# Altium schematic symbol library Connector - Modular.SchLib: 7 symbols
Pins are listed as number, name and electrical type; pins without a type are passive.

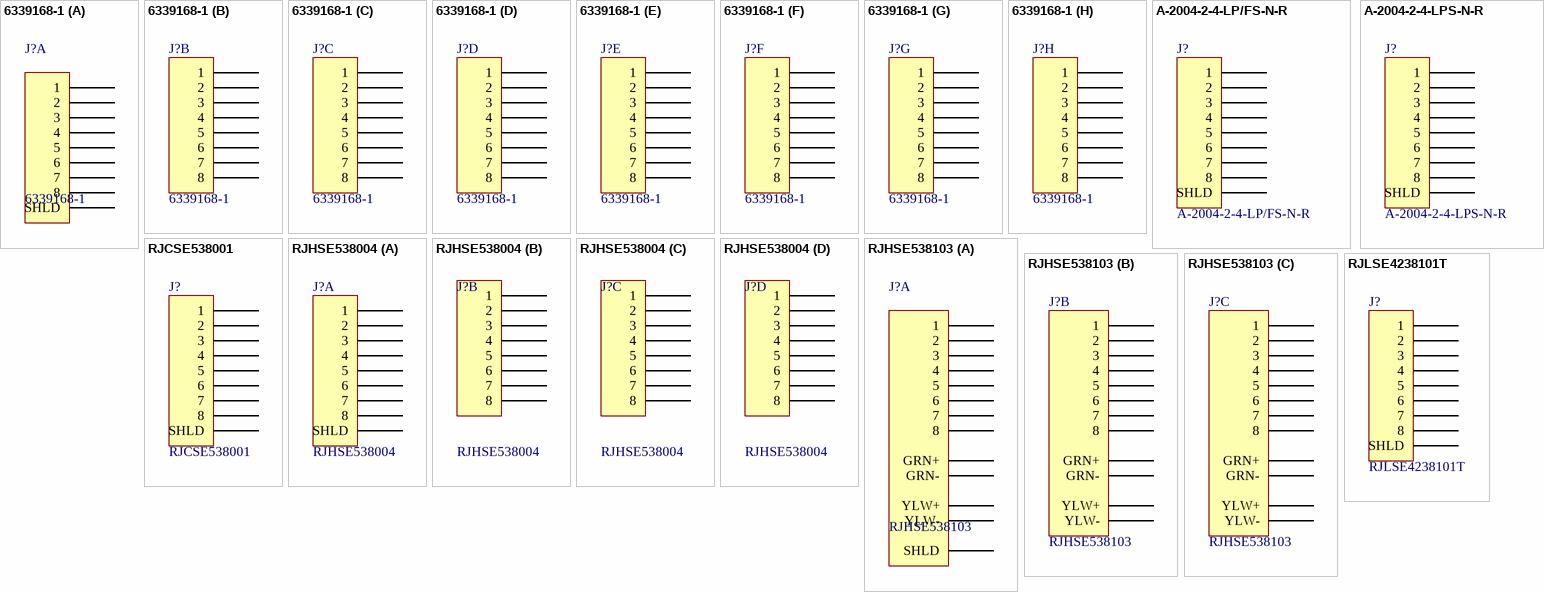
[diagram p0: symbols 6339168-1 to RJLSE4238101T]

## 6339168-1
designator J?
CONN MOD JACK 8PORT 8P8C R/A SHIELDED; Manufacturer: TE Connectivity AMP Connectors; Number Of Ports: 8; Shielding: Shielded, EMI Finger; LED Colour: Does Not Contain LED; Tab Direction: Up and Down; Part Number: 6339168-1; PartId: 9278; Supplier 1: Digi-Key; Supplier Part Number 1: A115573-ND; ComponentLink1Description: Datasheet; ComponentLink1URL: http://www.te.com/commerce/DocumentDelivery/DDEController?Action=srchrtrv&DocNm=6339168&DocType=Customer+Drawing&DocLang=English; ComponentLink2Description: Digi-Key Listing; ComponentLink2URL: http://www.digikey.ca/product-detail/en/6339168-1/A115573-ND/2188194; Price: 16.53; Series: -; Connector Type: Jack; Number Of Rows: 2; Mounting Type: Through Hole; Orientation: 90 Angle (Right); Termination: Solder; Features: Board Guide; Ingress Protection: -; Contact Finish: Gold
footprint TE 6339168-01-B
part A pins: A1 1, A2 2, A3 3, A4 4, A5 5, A6 6, A7 7, A8 8, S SHLD
part B pins: B1 1, B2 2, B3 3, B4 4, B5 5, B6 6, B7 7, B8 8
part C pins: C1 1, C2 2, C3 3, C4 4, C5 5, C6 6, C7 7, C8 8
part D pins: D1 1, D2 2, D3 3, D4 4, D5 5, D6 6, D7 7, D8 8
part E pins: E1 1, E2 2, E3 3, E4 4, E5 5, E6 6, E7 7, E8 8
part F pins: F1 1, F2 2, F3 3, F4 4, F5 5, F6 6, F7 7, F8 8
part G pins: G1 1, G2 2, G3 3, G4 4, G5 5, G6 6, G7 7, G8 8
part H pins: H1 1, H2 2, H3 3, H4 4, H5 5, H6 6, H7 7, H8 8

## A-2004-2-4-LP/FS-N-R
designator J?
CONN MOD JACK 8P8C R/A SHIELDED; Manufacturer: Assmann WSW Components; Number Of Ports: 1; LED Colour: Does Not Contain LED; Tab Direction: Down; Part Number: A-2004-2-4-LP/FS-N-R; PartId: 14419; Supplier 1: Digi-Key; Supplier Part Number 1: AE10386-ND; ComponentLink1Description: Datasheet; ComponentLink1URL: http://www.assmann.us/specs/A-2004-2-4-LP_FS-N-R_REV00.pdf; ComponentLink2Description: Digi-Key Listing; ComponentLink2URL: http://www.digikey.com/product-detail/en/assmann-wsw-components/A-2004-2-4-LP%2FFS-N-R/AE10386-ND/2183637; Price: 1.13; Series: -; Connector Type: Jack; Number Of Rows: 1; Mounting Type: Through Hole; Orientation: 90 Angle (Right); Termination: Solder; Shielding: Shielded; Features: Board Lock; Ingress Protection: -; Contact Finish: Gold
footprint ASSMANN A-2004-2-4-LP/FS
pins: 1, 2, 3, 4, 5, 6, 7, 8, S SHLD

## A-2004-2-4-LPS-N-R
designator J?
CONN MOD JACK 8P8C R/A SHIELDED; Manufacturer: Assmann WSW Components; Number Of Ports: 1; LED Colour: Does Not Contain LED; Tab Direction: Down; Part Number: A-2004-2-4-LPS-N-R; PartId: 14420; Supplier 1: Digi-Key; Supplier Part Number 1: AE10387-ND; ComponentLink1Description: Datasheet; ComponentLink1URL: http://www.assmann.us/specs/A-2004-2-4-LPS-N-R.pdf; ComponentLink2Description: Digi-Key Listing; ComponentLink2URL: http://www.digikey.com/product-detail/en/assmann-wsw-components/A-2004-2-4-LPS-N-R/AE10387-ND/2183638; Price: 1.05; Series: -; Connector Type: Jack; Number Of Rows: 1; Mounting Type: Through Hole; Orientation: 90 Angle (Right); Termination: Solder; Shielding: Shielded; Features: Board Lock; Ingress Protection: -; Contact Finish: Gold
footprint ASSMANN A-2004-2-4-LPS-N-R
pins: 1, 2, 3, 4, 5, 6, 7, 8, S SHLD

## RJCSE538001
designator J?
CONN MOD JACK 8P8C R/A SHIELDED; Manufacturer: Amphenol Commercial Products; Number Of Ports: 1; Shielding: Shielded, EMI Finger; LED Colour: Does Not Contain LED; Tab Direction: Up; Part Number: RJCSE538001; PartId: 9277; Supplier 1: Digi-Key; Supplier Part Number 1: RJCSE538001TR-ND; ComponentLink1Description: Datasheet; ComponentLink1URL: https://www.amphenolcanada.com/ProductSearch/drawings/AC/RJCSEX38X01X.pdf; ComponentLink2Description: Digi-Key Listing; ComponentLink2URL: http://www.digikey.ca/product-detail/en/RJCSE538001/RJCSE538001TR-ND/3464999; Price: 1.6368; Connector Type: Jack; Number Of Rows: 1; Mounting Type: Surface Mount; Orientation: 90 Angle (Right); Termination: Solder; Features: Board Guide, Solder Retention; Ingress Protection: -; Contact Finish: Gold
footprint Amphenol RJCSE538001
pins: 1, 2, 3, 4, 5, 6, 7, 8, S SHLD

## RJHSE538004
designator J?
CONN MOD JACK 8P8C R/A SHIELDED; Manufacturer: Amphenol Commercial Products; Number Of Ports: 4; Shielding: Shielded, EMI Finger; LED Colour: Does Not Contain LED; Tab Direction: Up; Part Number: RJHSE538004; PartId: 10877; Supplier 1: Digi-Key; Supplier Part Number 1: RJHSE538004-ND; ComponentLink1Description: Datasheet; ComponentLink1URL: https://www.amphenolcanada.com/ProductSearch/drawings/AC/RJHSE538x04.pdf; ComponentLink2Description: Digi-Key Listing; ComponentLink2URL: http://www.digikey.com/product-detail/en/amphenol-commercial-products/RJHSE538004/RJHSE538004-ND/1979547; Price: 4.39; Series: RJHSE; Connector Type: Jack; Number Of Rows: 1; Mounting Type: Through Hole; Orientation: 90 Angle (Right); Termination: Solder; Features: Board Lock; Ingress Protection: -; Contact Finish: Gold
footprint AMPHENOL RJHSE-5380-04
part A pins: A1 1, A2 2, A3 3, A4 4, A5 5, A6 6, A7 7, A8 8, S SHLD
part B pins: B1 1, B2 2, B3 3, B4 4, B5 5, B6 6, B7 7, B8 8
part C pins: C1 1, C2 2, C3 3, C4 4, C5 5, C6 6, C7 7, C8 8
part D pins: D1 1, D2 2, D3 3, D4 4, D5 5, D6 6, D7 7, D8 8

## RJHSE538103
designator J?
CONN MOD JACK 8P8C R/A SHIELDED; Manufacturer: Amphenol Commercial Products; Number Of Ports: 3; Shielding: Shielded, EMI Finger; LED Colour: Yellow - Green; Tab Direction: Up; Part Number: RJHSE538103; PartId: 10878; Supplier 1: Digi-Key; Supplier Part Number 1: RJHSE538103-ND; ComponentLink1Description: Datasheet; ComponentLink1URL: https://www.amphenolcanada.com/productsearch/pdf/ACPRJHC07%20revc%20complete.pdf; ComponentLink2Description: Digi-Key Listing; ComponentLink2URL: http://www.digikey.com/product-search/en?keywords=RJHSE538103; Price: 3.83; Series: RJHSE; Connector Type: Jack; Number Of Rows: 1; Mounting Type: Through Hole; Orientation: 90 Angle (Right); Termination: Solder; Features: Board Lock; Ingress Protection: -; Contact Finish: Gold
footprint AMPHENOL RJHSE-538X-03
part A pins: A1 1, A2 2, A3 3, A4 4, A5 5, A6 6, A7 7, A8 8, A9 GRN-, A10 GRN+, A11 YLW-, A12 YLW+, S SHLD
part B pins: B1 1, B2 2, B3 3, B4 4, B5 5, B6 6, B7 7, B8 8, B9 GRN-, B10 GRN+, B11 YLW-, B12 YLW+
part C pins: C1 1, C2 2, C3 3, C4 4, C5 5, C6 6, C7 7, C8 8, C9 GRN-, C10 GRN+, C11 YLW-, C12 YLW+

## RJLSE4238101T
designator J?
CONN MOD JACK 8P8C R/A SHIELDED; Manufacturer: Amphenol Commercial Products; Number Of Ports: 1; LED Colour: Does Not Contain LED; Tab Direction: Down; Part Number: RJLSE4238101T; PartId: 9276; Supplier 1: Digi-Key; Supplier Part Number 1: RJLSE4238101TTR-ND; ComponentLink1Description: Datasheet; ComponentLink1URL: https://www.amphenolcanada.com/ProductSearch/pdf/RJLSE_BRO.pdf; ComponentLink2Description: Digi-Key Listing; ComponentLink2URL: http://www.digikey.ca/product-detail/en/RJLSE4238101T/RJLSE4238101TTR-ND/1979556; Price: 1.6087; Connector Type: Jack; Number Of Rows: 1; Mounting Type: Surface Mount; Orientation: 90 Angle (Right); Termination: Solder; Shielding: Shielded; Features: Solder Retention; Ingress Protection: -; Contact Finish: Gold
footprint Amphenol RJLSE4238101T
pins: 1, 2, 3, 4, 5, 6, 7, 8, S SHLD